# EAGLE library part SIM7000A (library eric_personal_parts)
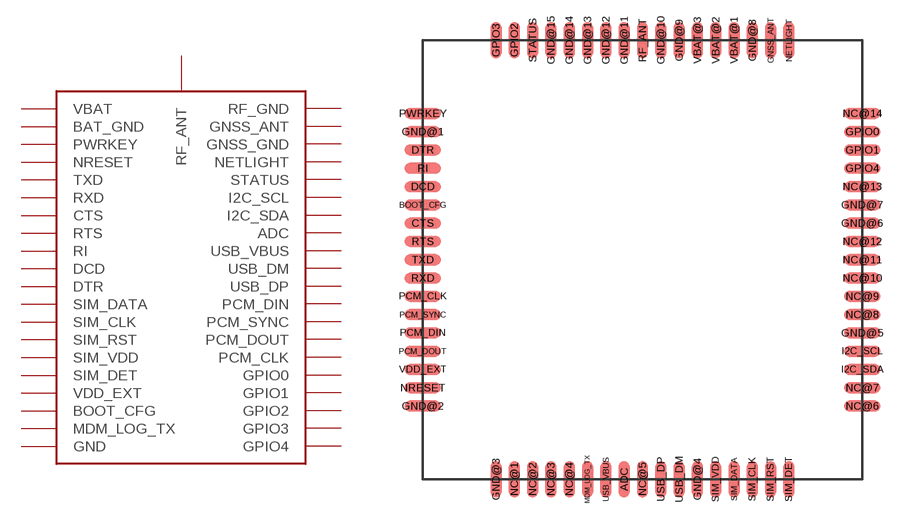
[diagram p6: symbol with the pads of SIM7000A; footprint SIM7000A]

Designator prefix -

## SIM7000A  [SIM7000A]
ADC  ADC
BOOT_CFG  BOOT_CFG
CTS  CTS
DCD  DCD
DTR  DTR
GND@1  GND
GND@2  GND
GND@3  GND
GND@4  GND
GND@5  GND
GND@6  GND
GND@7  GND
GND@8  GNSS_GND
GND@9  BAT_GND
GND@10  BAT_GND
GND@11  RF_GND
GND@12  RF_GND
GND@13  RF_GND
GND@14  GND
GND@15  GND
GNSS_ANT  GNSS_ANT
GPIO0  GPIO0
GPIO1  GPIO1
GPIO2  GPIO2
GPIO3  GPIO3
GPIO4  GPIO4
I2C_SCL  I2C_SCL
I2C_SDA  I2C_SDA
MDM_LOG_TX  MDM_LOG_TX
NETLIGHT  NETLIGHT
NRESET  NRESET
PCM_CLK  PCM_CLK
PCM_DIN  PCM_DIN
PCM_DOUT  PCM_DOUT
PCM_SYNC  PCM_SYNC
PWRKEY  PWRKEY
RF_ANT  RF_ANT
RI  RI
RTS  RTS
RXD  RXD
SIM_CLK  SIM_CLK
SIM_DATA  SIM_DATA
SIM_DET  SIM_DET
SIM_RST  SIM_RST
SIM_VDD  SIM_VDD
STATUS  STATUS
TXD  TXD
USB_DM  USB_DM
USB_DP  USB_DP
USB_VBUS  USB_VBUS
VBAT@1  VBAT
VBAT@2  VBAT
VBAT@3  VBAT
VDD_EXT  VDD_EXT

## Footprint SIM7000A (pad centres in mm)
smd 0.6 x 2: ADC 11,0; GND@3 4,0; GND@4 15,0; GND@8 18,24; GND@9 14,24; GND@10 13,24; GND@11 11,24; GND@12 10,24; GND@13 9,24; GND@14 8,24; GND@15 7,24; GNSS_ANT 19,24; GPIO2 5,24; GPIO3 4,24; MDM_LOG_TX 9,0; NC@1 5,0; NC@2 6,0; NC@3 7,0; NC@4 8,0; NC@5 12,0; NETLIGHT 20,24; RF_ANT 12,24; SIM_CLK 18,0; SIM_DATA 17,0; SIM_DET 20,0; SIM_RST 19,0; SIM_VDD 16,0; STATUS 6,24; USB_DM 14,0; USB_DP 13,0; USB_VBUS 10,0; VBAT@1 17,24; VBAT@2 16,24; VBAT@3 15,24
smd 2 x 0.6: BOOT_CFG 0,15; CTS 0,14; DCD 0,16; DTR 0,18; GND@1 0,19; GND@2 0,4; GND@5 24,8; GND@6 24,14; GND@7 24,15; GPIO0 24,19; GPIO1 24,18; GPIO4 24,17; I2C_SCL 24,7; I2C_SDA 24,6; NC@6 24,4; NC@7 24,5; NC@8 24,9; NC@9 24,10; NC@10 24,11; NC@11 24,12; NC@12 24,13; NC@13 24,16; NC@14 24,20; NRESET 0,5; PCM_CLK 0,10; PCM_DIN 0,8; PCM_DOUT 0,7; PCM_SYNC 0,9; PWRKEY 0,20; RI 0,17; RTS 0,13; RXD 0,11; TXD 0,12; VDD_EXT 0,6